# Altium schematic symbol library MSS1038-333MLC.SchLib: 1 symbol
Pins are listed as number, name and electrical type; pins without a type are passive.

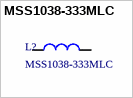
[diagram p0: symbol MSS1038-333MLC]

## MSS1038-333MLC
designator L?
INDUCTOR, PWR, 33UH, 2.3A, 20%,13MHZ; Farnell: 2288211; MPN: MSS1038-333MLC
footprint INDP102100X40N (Precision Wire Wound Inductor, 2-Leads, Body 10,20x10,00mm, IPC Medium Density)
pins: 1, 2